# Altium schematic symbol library kmilo17pet-TI_MSP430.SchLib: 1463 symbols (part 60 of 130)
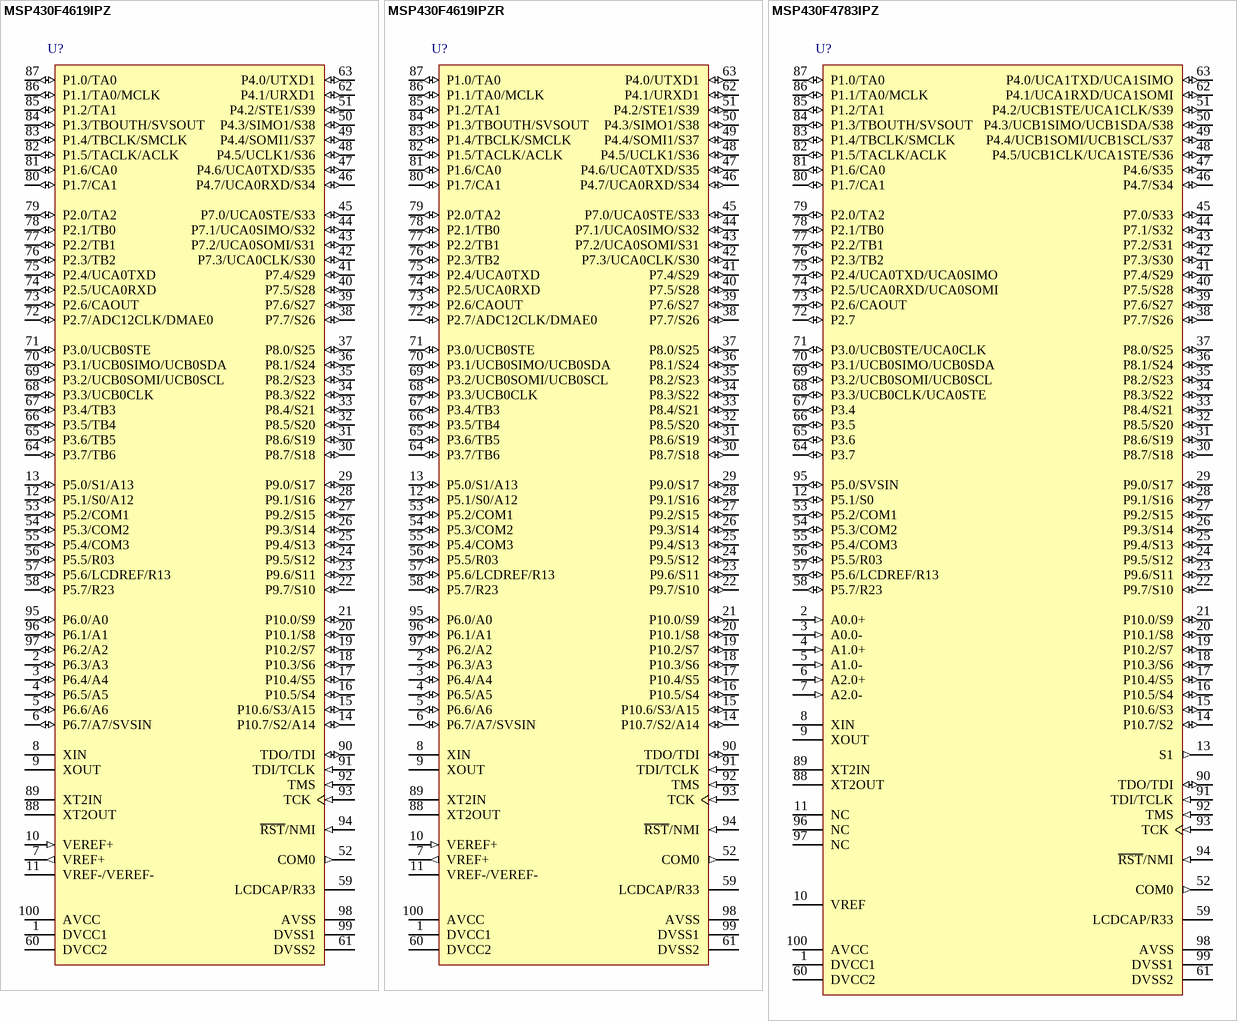
[diagram p365: symbols MSP430F4619IPZ to MSP430F4783IPZ]

## MSP430F4783IPZ
designator U?
16 MHz Mixed Signal Microcontroller with 48 KB Flash, 2048 B SRAM and 72 GPIOs, -40 to 85 degC, 100-pin QFP (PZ), Green (RoHS & no Sb/Br); Manufacturer: Texas Instruments; PartNumber: MSP430F4783IPZ; ADC: 16-bit Sigma Delta; Brown Out Reset: Yes; Flash(KB): 48; Frequency(MHz): 16; GPIO: 72; LCD Segments: 160; Multiplier: 32x32; SRAM(B): 2048; SubFamily: 4 Series with LCD; Timers - 16-bit: 2; DatasheetVersion: SLAS545C; PackageVersion: 4040149/B; PackageReference: PZ100; PackageDescription: 100-Pin Plastic Flat Pack, Body 14 x 14 mm, Pitch 0.5 mm; Supplier 1: Digi-Key; Supplier Part Number 1: 296-25380-2-ND; Supplier 2: Digi-Key; Supplier Part Number 2: 296-25380-1-ND; Supplier 3: Digi-Key; Supplier Part Number 3: 296-25380-6-ND; Supplier 4: Newark; Supplier Part Number 4: 24R9858; Supplier 5: Mouser; Supplier Part Number 5: 595-MSP430F477IPNR; Eco-Plan: Green (RoHS & no Sb/Br); SVS: Yes; Temp Sensor: Yes; USCI_A (UART/LIN/IrDA/SPI): 2; USCI_B (I2C & SPI): 2; Watchdog: Yes; Mounting Technology: Surface Mount; Code_JEDEC: MS-026; ComponentLink1Description: Manufacturer URL; ComponentLink1URL: http://www.ti.com/; ComponentLink2Description: Datasheet; ComponentLink2URL: http://www.ti.com/general/docs/lit/getliterature.tsp?genericPartNumber=MSP430F4783&fileType=pdf; ComponentLink3Description: Package Specification; ComponentLink3URL: http://www.ti.com/lit/ml/mtqf013a/mtqf013a.pdf
footprint TI-PZ100_N (QFP, 100-Leads, Body 14x14mm, Pitch 0.5mm, IPC Medium Density)
pins: 1 DVCC1 (power) "Digital supply voltage, positive terminal.", 2 A0.0+ (in) "SD16_A positive analog input A0.0", 3 A0.0- (in) "SD16_A negative analog input A0.0", 4 A1.0+ (in) "SD16_A positive analog input A1.0", 5 A1.0- (in) "SD16_A negative analog input A1.0", 6 A2.0+ (in) "SD16_A positive analog input A2.0", 7 A2.0- (in) "SD16_A negative analog input A2.0", 8 XIN "Input port for crystal oscillator XT1. Standard or watch crystals can be connected.", 9 XOUT "Output terminal of crystal oscillator XT1", 10 VREF "Input for an external reference voltage / Internal reference voltage output (can be used as mid-voltage)", 11 NC "Internally not connected. Can be connected to VSS.", 12 P5.1/S0 (io), 13 S1 (out) "LCD segment output 1", 14 P10.7/S2 (io), 15 P10.6/S3 (io), 16 P10.5/S4 (io), 17 P10.4/S5 (io), 18 P10.3/S6 (io), 19 P10.2/S7 (io), 20 P10.1/S8 (io), 21 P10.0/S9 (io), 22 P9.7/S10 (io), 23 P9.6/S11 (io), 24 P9.5/S12 (io), 25 P9.4/S13 (io), 26 P9.3/S14 (io), 27 P9.2/S15 (io), 28 P9.1/S16 (io), 29 P9.0/S17 (io), 30 P8.7/S18 (io), 31 P8.6/S19 (io), 32 P8.5/S20 (io), 33 P8.4/S21 (io), 34 P8.3/S22 (io), 35 P8.2/S23 (io), 36 P8.1/S24 (io), 37 P8.0/S25 (io), 38 P7.7/S26 (io), 39 P7.6/S27 (io), 40 P7.5/S28 (io), 41 P7.4/S29 (io), 42 P7.3/S30 (io), 43 P7.2/S31 (io), 44 P7.1/S32 (io), 45 P7.0/S33 (io), 46 P4.7/S34 (io), 47 P4.6/S35 (io), 48 P4.5/UCB1CLK/UCA1STE/S36 (io), 49 P4.4/UCB1SOMI/UCB1SCL/S37 (io), 50 P4.3/UCB1SIMO/UCB1SDA/S38 (io), 51 P4.2/UCB1STE/UCA1CLK/S39 (io), 52 COM0 (out) "COM0-3 are used for LCD backplanes", 53 P5.2/COM1 (io), 54 P5.3/COM2 (io), 55 P5.4/COM3 (io), 56 P5.5/R03 (io), 57 P5.6/LCDREF/R13 (io), 58 P5.7/R23 (io), 59 LCDCAP/R33, 60 DVCC2 (power) "Digital supply voltage, positive terminal.", 61 DVSS2 (power) "Digital supply voltage, negative terminal.", 62 P4.1/UCA1RXD/UCA1SOMI (io), 63 P4.0/UCA1TXD/UCA1SIMO (io), 64 P3.7 (io) "General-purpose digital I/O", 65 P3.6 (io) "General-purpose digital I/O", 66 P3.5 (io) "General-purpose digital I/O", 67 P3.4 (io) "General-purpose digital I/O", 68 P3.3/UCB0CLK/UCA0STE (io), 69 P3.2/UCB0SOMI/UCB0SCL (io), 70 P3.1/UCB0SIMO/UCB0SDA (io), 71 P3.0/UCB0STE/UCA0CLK (io), 72 P2.7 (io) "General-purpose digital I/O", 73 P2.6/CAOUT (io), 74 P2.5/UCA0RXD/UCA0SOMI (io), 75 P2.4/UCA0TXD/UCA0SIMO (io), 76 P2.3/TB2 (io), 77 P2.2/TB1 (io), 78 P2.1/TB0 (io), 79 P2.0/TA2 (io), 80 P1.7/CA1 (io), 81 P1.6/CA0 (io), 82 P1.5/TACLK/ACLK (io), 83 P1.4/TBCLK/SMCLK (io), 84 P1.3/TBOUTH/SVSOUT (io), 85 P1.2/TA1 (io), 86 P1.1/TA0/MCLK (io), 87 P1.0/TA0 (io), 88 XT2OUT "Output terminal of crystal oscillator XT2", 89 XT2IN "Input port for crystal oscillator XT2. Only standard crystals can be connected.", 90 TDO/TDI (io), 91 TDI/TCLK (in), 92 TMS (in) "Test mode select. TMS is used as an input port for device programming and test.", 93 TCK (in) "Test clock. TCK is the clock input port for device programming and test.", 94 ~{RST}/NMI (in), 95 P5.0/SVSIN (io), 96 NC "Not connected in MSP430x47x3 devices, open connection recommended.", 97 NC "Not connected in MSP430x47x3 devices, open connection recommended.", 98 AVSS (power) "Analog supply voltage, negative terminal.", 99 DVSS1 (power) "Digital supply voltage, negative terminal.", 100 AVCC (power) "Analog supply voltage, positive terminal. Must not power up prior to DVCC1/DVCC2."

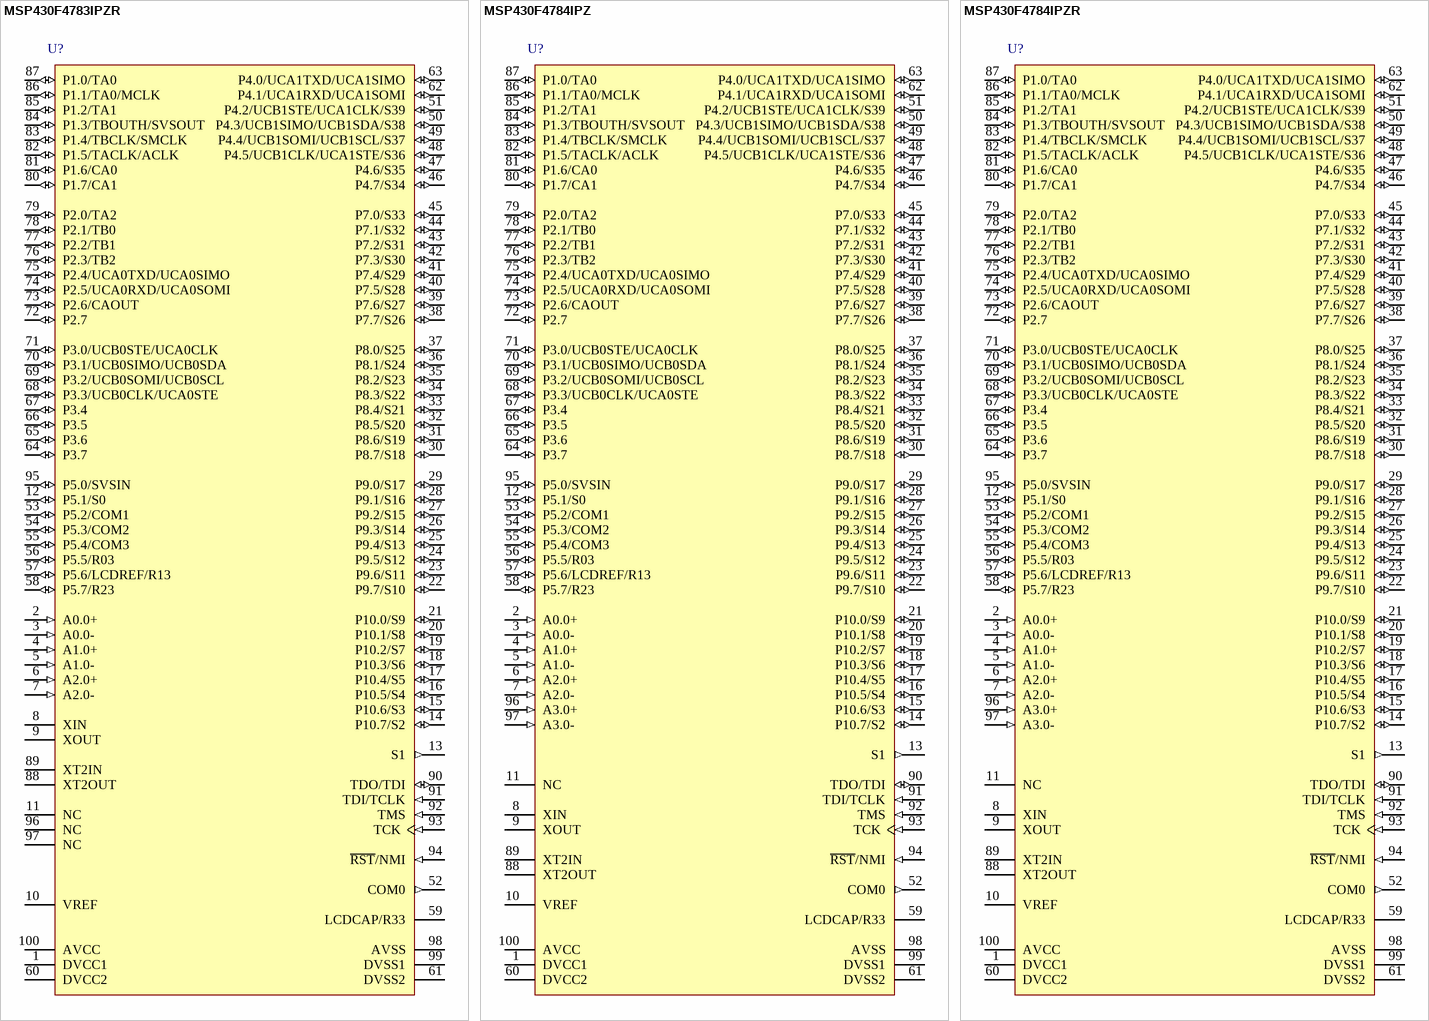
[diagram p87: symbols MSP430F4783IPZR to MSP430F4784IPZR]

## MSP430F4783IPZR
designator U?
16 MHz Mixed Signal Microcontroller with 48 KB Flash, 2048 B SRAM and 72 GPIOs, -40 to 85 degC, 100-pin QFP (PZ), Green (RoHS & no Sb/Br); Manufacturer: Texas Instruments; PartNumber: MSP430F4783IPZR; ADC: 16-bit Sigma Delta; Brown Out Reset: Yes; Flash(KB): 48; Frequency(MHz): 16; GPIO: 72; LCD Segments: 160; Multiplier: 32x32; SRAM(B): 2048; SubFamily: 4 Series with LCD; Timers - 16-bit: 2; DatasheetVersion: SLAS545C; PackageVersion: 4040149/B; PackageReference: PZ100; PackageDescription: 100-Pin Plastic Flat Pack, Body 14 x 14 mm, Pitch 0.5 mm; Supplier 1: Digi-Key; Supplier Part Number 1: 296-33434-5-ND; Supplier 2: Farnell; Supplier Part Number 2: 1903449; Supplier 3: Newark; Supplier Part Number 3: 73M3249; Supplier 4: Mouser; Supplier Part Number 4: 595-MSP430F4783IPZ; Eco-Plan: Green (RoHS & no Sb/Br); SVS: Yes; Temp Sensor: Yes; USCI_A (UART/LIN/IrDA/SPI): 2; USCI_B (I2C & SPI): 2; Watchdog: Yes; Mounting Technology: Surface Mount; Code_JEDEC: MS-026; ComponentLink1Description: Manufacturer URL; ComponentLink1URL: http://www.ti.com/; ComponentLink2Description: Datasheet; ComponentLink2URL: http://www.ti.com/general/docs/lit/getliterature.tsp?genericPartNumber=MSP430F4783&fileType=pdf; ComponentLink3Description: Package Specification; ComponentLink3URL: http://www.ti.com/lit/ml/mtqf013a/mtqf013a.pdf
footprint TI-PZ100_N (QFP, 100-Leads, Body 14x14mm, Pitch 0.5mm, IPC Medium Density)
pins: 1 DVCC1 (power) "Digital supply voltage, positive terminal.", 2 A0.0+ (in) "SD16_A positive analog input A0.0", 3 A0.0- (in) "SD16_A negative analog input A0.0", 4 A1.0+ (in) "SD16_A positive analog input A1.0", 5 A1.0- (in) "SD16_A negative analog input A1.0", 6 A2.0+ (in) "SD16_A positive analog input A2.0", 7 A2.0- (in) "SD16_A negative analog input A2.0", 8 XIN "Input port for crystal oscillator XT1. Standard or watch crystals can be connected.", 9 XOUT "Output terminal of crystal oscillator XT1", 10 VREF "Input for an external reference voltage / Internal reference voltage output (can be used as mid-voltage)", 11 NC "Internally not connected. Can be connected to VSS.", 12 P5.1/S0 (io), 13 S1 (out) "LCD segment output 1", 14 P10.7/S2 (io), 15 P10.6/S3 (io), 16 P10.5/S4 (io), 17 P10.4/S5 (io), 18 P10.3/S6 (io), 19 P10.2/S7 (io), 20 P10.1/S8 (io), 21 P10.0/S9 (io), 22 P9.7/S10 (io), 23 P9.6/S11 (io), 24 P9.5/S12 (io), 25 P9.4/S13 (io), 26 P9.3/S14 (io), 27 P9.2/S15 (io), 28 P9.1/S16 (io), 29 P9.0/S17 (io), 30 P8.7/S18 (io), 31 P8.6/S19 (io), 32 P8.5/S20 (io), 33 P8.4/S21 (io), 34 P8.3/S22 (io), 35 P8.2/S23 (io), 36 P8.1/S24 (io), 37 P8.0/S25 (io), 38 P7.7/S26 (io), 39 P7.6/S27 (io), 40 P7.5/S28 (io), 41 P7.4/S29 (io), 42 P7.3/S30 (io), 43 P7.2/S31 (io), 44 P7.1/S32 (io), 45 P7.0/S33 (io), 46 P4.7/S34 (io), 47 P4.6/S35 (io), 48 P4.5/UCB1CLK/UCA1STE/S36 (io), 49 P4.4/UCB1SOMI/UCB1SCL/S37 (io), 50 P4.3/UCB1SIMO/UCB1SDA/S38 (io), 51 P4.2/UCB1STE/UCA1CLK/S39 (io), 52 COM0 (out) "COM0-3 are used for LCD backplanes", 53 P5.2/COM1 (io), 54 P5.3/COM2 (io), 55 P5.4/COM3 (io), 56 P5.5/R03 (io), 57 P5.6/LCDREF/R13 (io), 58 P5.7/R23 (io), 59 LCDCAP/R33, 60 DVCC2 (power) "Digital supply voltage, positive terminal.", 61 DVSS2 (power) "Digital supply voltage, negative terminal.", 62 P4.1/UCA1RXD/UCA1SOMI (io), 63 P4.0/UCA1TXD/UCA1SIMO (io), 64 P3.7 (io) "General-purpose digital I/O", 65 P3.6 (io) "General-purpose digital I/O", 66 P3.5 (io) "General-purpose digital I/O", 67 P3.4 (io) "General-purpose digital I/O", 68 P3.3/UCB0CLK/UCA0STE (io), 69 P3.2/UCB0SOMI/UCB0SCL (io), 70 P3.1/UCB0SIMO/UCB0SDA (io), 71 P3.0/UCB0STE/UCA0CLK (io), 72 P2.7 (io) "General-purpose digital I/O", 73 P2.6/CAOUT (io), 74 P2.5/UCA0RXD/UCA0SOMI (io), 75 P2.4/UCA0TXD/UCA0SIMO (io), 76 P2.3/TB2 (io), 77 P2.2/TB1 (io), 78 P2.1/TB0 (io), 79 P2.0/TA2 (io), 80 P1.7/CA1 (io), 81 P1.6/CA0 (io), 82 P1.5/TACLK/ACLK (io), 83 P1.4/TBCLK/SMCLK (io), 84 P1.3/TBOUTH/SVSOUT (io), 85 P1.2/TA1 (io), 86 P1.1/TA0/MCLK (io), 87 P1.0/TA0 (io), 88 XT2OUT "Output terminal of crystal oscillator XT2", 89 XT2IN "Input port for crystal oscillator XT2. Only standard crystals can be connected.", 90 TDO/TDI (io), 91 TDI/TCLK (in), 92 TMS (in) "Test mode select. TMS is used as an input port for device programming and test.", 93 TCK (in) "Test clock. TCK is the clock input port for device programming and test.", 94 ~{RST}/NMI (in), 95 P5.0/SVSIN (io), 96 NC "Not connected in MSP430x47x3 devices, open connection recommended.", 97 NC "Not connected in MSP430x47x3 devices, open connection recommended.", 98 AVSS (power) "Analog supply voltage, negative terminal.", 99 DVSS1 (power) "Digital supply voltage, negative terminal.", 100 AVCC (power) "Analog supply voltage, positive terminal. Must not power up prior to DVCC1/DVCC2."

## MSP430F4784IPZ
designator U?
16 MHz Mixed Signal Microcontroller with 48 KB Flash, 2048 B SRAM and 72 GPIOs, -40 to 85 degC, 100-pin QFP (PZ), Green (RoHS & no Sb/Br); Manufacturer: Texas Instruments; PartNumber: MSP430F4784IPZ; ADC: 16-bit Sigma Delta; Brown Out Reset: Yes; Flash(KB): 48; Frequency(MHz): 16; GPIO: 72; LCD Segments: 160; Multiplier: 32x32; SRAM(B): 2048; SubFamily: 4 Series with LCD; Timers - 16-bit: 2; DatasheetVersion: SLAS545C; PackageVersion: 4040149/B; PackageReference: PZ100; PackageDescription: 100-Pin Plastic Flat Pack, Body 14 x 14 mm, Pitch 0.5 mm; Supplier 1: Digi-Key; Supplier Part Number 1: 296-22914-2-ND; Supplier 2: Digi-Key; Supplier Part Number 2: 296-22914-1-ND; Supplier 3: Digi-Key; Supplier Part Number 3: 296-22914-6-ND; Supplier 4: Newark; Supplier Part Number 4: 73M3250; Supplier 5: Mouser; Supplier Part Number 5: 595-MSP430F4783IPZR; Comparators: Yes; Eco-Plan: Green (RoHS & no Sb/Br); SVS: Yes; Temp Sensor: Yes; USCI_A (UART/LIN/IrDA/SPI): 2; USCI_B (I2C & SPI): 2; Watchdog: Yes; Mounting Technology: Surface Mount; Code_JEDEC: MS-026; ComponentLink1Description: Manufacturer URL; ComponentLink1URL: http://www.ti.com/; ComponentLink2Description: Datasheet; ComponentLink2URL: http://www.ti.com/general/docs/lit/getliterature.tsp?genericPartNumber=MSP430F4784&fileType=pdf; ComponentLink3Description: Package Specification; ComponentLink3URL: http://www.ti.com/lit/ml/mtqf013a/mtqf013a.pdf
footprint TI-PZ100_N (QFP, 100-Leads, Body 14x14mm, Pitch 0.5mm, IPC Medium Density)
pins: 1 DVCC1 (power) "Digital supply voltage, positive terminal.", 2 A0.0+ (in) "SD16_A positive analog input A0.0", 3 A0.0- (in) "SD16_A negative analog input A0.0", 4 A1.0+ (in) "SD16_A positive analog input A1.0", 5 A1.0- (in) "SD16_A negative analog input A1.0", 6 A2.0+ (in) "SD16_A positive analog input A2.0", 7 A2.0- (in) "SD16_A negative analog input A2.0", 8 XIN "Input port for crystal oscillator XT1. Standard or watch crystals can be connected.", 9 XOUT "Output terminal of crystal oscillator XT1", 10 VREF "Input for an external reference voltage / Internal reference voltage output (can be used as mid-voltage)", 11 NC "Internally not connected. Can be connected to VSS.", 12 P5.1/S0 (io), 13 S1 (out) "LCD segment output 1", 14 P10.7/S2 (io), 15 P10.6/S3 (io), 16 P10.5/S4 (io), 17 P10.4/S5 (io), 18 P10.3/S6 (io), 19 P10.2/S7 (io), 20 P10.1/S8 (io), 21 P10.0/S9 (io), 22 P9.7/S10 (io), 23 P9.6/S11 (io), 24 P9.5/S12 (io), 25 P9.4/S13 (io), 26 P9.3/S14 (io), 27 P9.2/S15 (io), 28 P9.1/S16 (io), 29 P9.0/S17 (io), 30 P8.7/S18 (io), 31 P8.6/S19 (io), 32 P8.5/S20 (io), 33 P8.4/S21 (io), 34 P8.3/S22 (io), 35 P8.2/S23 (io), 36 P8.1/S24 (io), 37 P8.0/S25 (io), 38 P7.7/S26 (io), 39 P7.6/S27 (io), 40 P7.5/S28 (io), 41 P7.4/S29 (io), 42 P7.3/S30 (io), 43 P7.2/S31 (io), 44 P7.1/S32 (io), 45 P7.0/S33 (io), 46 P4.7/S34 (io), 47 P4.6/S35 (io), 48 P4.5/UCB1CLK/UCA1STE/S36 (io), 49 P4.4/UCB1SOMI/UCB1SCL/S37 (io), 50 P4.3/UCB1SIMO/UCB1SDA/S38 (io), 51 P4.2/UCB1STE/UCA1CLK/S39 (io), 52 COM0 (out) "COM0-3 are used for LCD backplanes", 53 P5.2/COM1 (io), 54 P5.3/COM2 (io), 55 P5.4/COM3 (io), 56 P5.5/R03 (io), 57 P5.6/LCDREF/R13 (io), 58 P5.7/R23 (io), 59 LCDCAP/R33, 60 DVCC2 (power) "Digital supply voltage, positive terminal.", 61 DVSS2 (power) "Digital supply voltage, negative terminal.", 62 P4.1/UCA1RXD/UCA1SOMI (io), 63 P4.0/UCA1TXD/UCA1SIMO (io), 64 P3.7 (io) "General-purpose digital I/O", 65 P3.6 (io) "General-purpose digital I/O", 66 P3.5 (io) "General-purpose digital I/O", 67 P3.4 (io) "General-purpose digital I/O", 68 P3.3/UCB0CLK/UCA0STE (io), 69 P3.2/UCB0SOMI/UCB0SCL (io), 70 P3.1/UCB0SIMO/UCB0SDA (io), 71 P3.0/UCB0STE/UCA0CLK (io), 72 P2.7 (io) "General-purpose digital I/O", 73 P2.6/CAOUT (io), 74 P2.5/UCA0RXD/UCA0SOMI (io), 75 P2.4/UCA0TXD/UCA0SIMO (io), 76 P2.3/TB2 (io), 77 P2.2/TB1 (io), 78 P2.1/TB0 (io), 79 P2.0/TA2 (io), 80 P1.7/CA1 (io), 81 P1.6/CA0 (io), 82 P1.5/TACLK/ACLK (io), 83 P1.4/TBCLK/SMCLK (io), 84 P1.3/TBOUTH/SVSOUT (io), 85 P1.2/TA1 (io), 86 P1.1/TA0/MCLK (io), 87 P1.0/TA0 (io), 88 XT2OUT "Output terminal of crystal oscillator XT2", 89 XT2IN "Input port for crystal oscillator XT2. Only standard crystals can be connected.", 90 TDO/TDI (io), 91 TDI/TCLK (in), 92 TMS (in) "Test mode select. TMS is used as an input port for device programming and test.", 93 TCK (in) "Test clock. TCK is the clock input port for device programming and test.", 94 ~{RST}/NMI (in), 95 P5.0/SVSIN (io), 96 A3.0+ (in) "SD16_A positive analog input A3.0", 97 A3.0- (in) "SD16_A negative analog input A3.0", 98 AVSS (power) "Analog supply voltage, negative terminal.", 99 DVSS1 (power) "Digital supply voltage, negative terminal.", 100 AVCC (power) "Analog supply voltage, positive terminal. Must not power up prior to DVCC1/DVCC2."